# Altium footprint library Custom library.PcbLib: 80 footprints (part 4 of 5)
Each footprint in its own frame and in the unit in brackets; x right, y up, seen from the top. Pads: shape width x height; smd on the part's side, far side on the other; paste and mask are expansions set on the pad; w line width, h text height; cw(c..) or ccw(c..) is an arc to the next point about the centre after c.
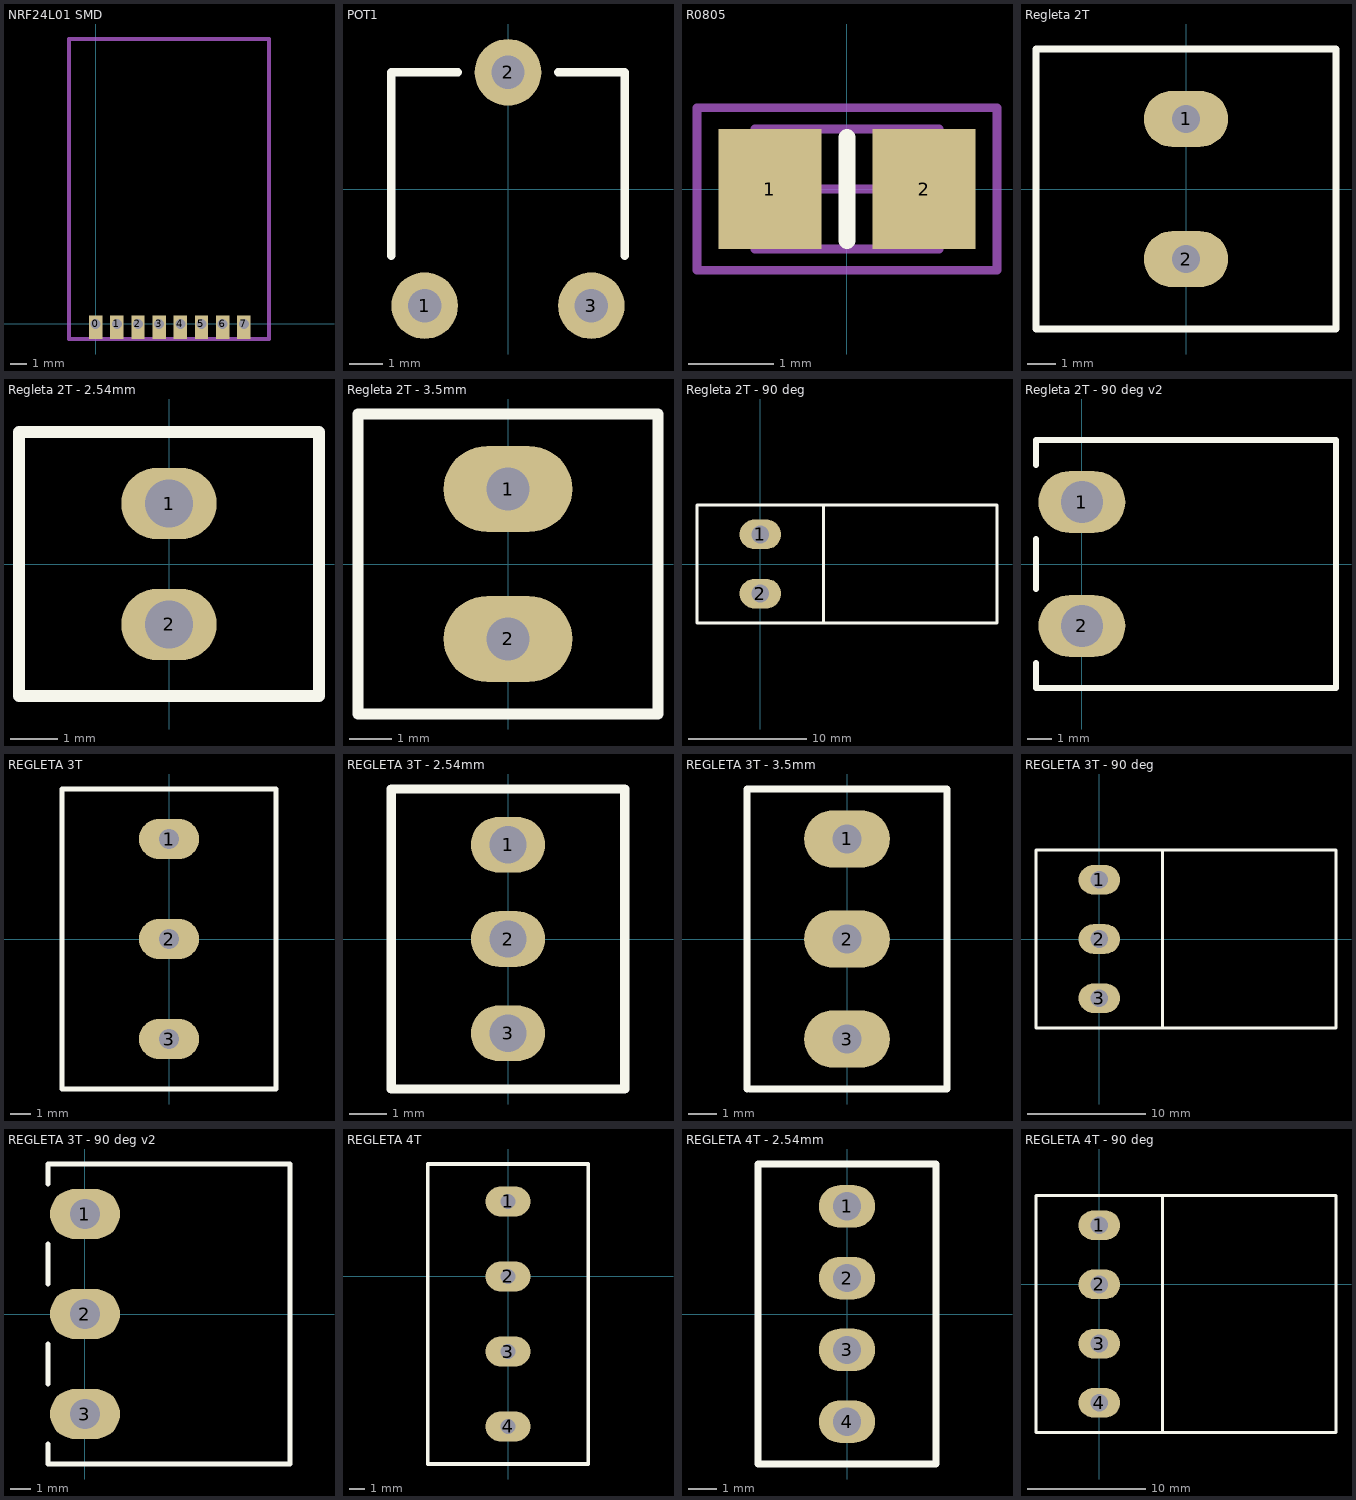
[diagram p3: the footprints below, top view; thin cyan lines are the x and y axes]

## NRF24L01 SMD [mm] "NRF24L01 Transciever SMD version"
pads (8):
  rect 0.8x1.4 hole 0.6 copper offset 0,-0.2: 0(0,0) 1(1.27,0) 2(2.54,0) 3(3.81,0) 4(5.08,0) 5(6.35,0) 6(7.62,0) 7(8.89,0)
Mechanical 1:
  lines w0.254: -1.6,-0.9 -1.6,17.1 10.4,17.1 10.4,-0.9 -1.6,-0.9
3D body: height 3.5, standoff 1.5, extent -1.6,-0.9 10.4,17.1

## POT1 [mm] "small pot"
pads (3):
  round 2 hole 1: 1(-2.5,-3.5) 2(0,3.5) 3(2.5,-3.5)
Top Overlay:
  lines w0.254: -3.5,-2 -3.5,3.5 -1.5,3.5 ; 1.5,3.5 3.5,3.5 3.5,-2

## R0805 [mm] "SMD0805 Resistor"
pads (2):
  rect 1.2x1.4 smd: 1(-0.9,0) 2(0.9,0)
Top Overlay:
  lines w0.2: 0,-0.6 0,0.6
Mechanical 13:
  lines w0.1: -1.075,-0.7 1.075,-0.7 1.075,0.7 -1.075,0.7 -1.075,-0.7
Mechanical 15:
  lines w0.1: -0.5,0 0.5,0 ; 0,-0.5 0,0.5 ; -1.75,-0.95 1.75,-0.95 1.75,0.95 -1.75,0.95 -1.75,-0.95
3D body: height 0.7, standoff 0, extent -1.075,-0.7 1.075,0.7

## Regleta 2T [mm] "Regleta standart de 2 pines"
pads (2):
  oval 3x2 hole 1: 1(0,2.5) 2(0,-2.5)
Top Overlay:
  lines w0.254: -5.35,-5 -5.35,5 5.35,5 5.35,-5 -5.35,-5
3D body: height 14.3, standoff 8, extent -3.175,-4.953 3.175,4.953
3D body: height 8, standoff 0, extent -5.334,-4.953 5.334,4.953

## Regleta 2T - 2.54mm [mm] "Regleta standart de 2 pines"
pads (2):
  oval 2x1.5 hole 1: 1(0,1.27) 2(0,-1.27)
Top Overlay:
  lines w0.254: -3.15,-2.77 -3.15,2.77 3.15,2.77 3.15,-2.77 -3.15,-2.77
3D body: height 14.3, standoff 8, extent -1.76,-2.77 1.89,2.77
3D body: height 8, standoff 0, extent -3.15,-2.77 3.15,2.77

## Regleta 2T - 3.5mm [mm] "Regleta standart de 2 pines"
pads (2):
  oval 3x2 hole 1: 1(0,1.75) 2(0,-1.75)
Top Overlay:
  lines w0.254: -3.5,-3.5 -3.5,3.5 3.5,3.5 3.5,-3.5 -3.5,-3.5
3D body: height 8.4, standoff 6, extent -3.5,-3.5 2,3.5
3D body: height 6, standoff 0, extent -3.5,-3.5 3.5,3.5

## Regleta 2T - 90 deg [mm] "Regleta standart de 2 pines 90 grados extraible"
pads (2):
  oval 3.5x2.5 hole 1.5: 1(0,2.5) 2(0,-2.5)
Top Overlay:
  lines w0.254: 19.939,5 5.35,5 ; 19.953,-5 5.35,-5 ; 20,-5 20,5 ; 5.35,-5 -5.35,-5 -5.35,5 5.35,5 ; 5.35,-5 5.35,5
3D body: height 14.3, standoff 8, extent -3.175,-4.953 3.175,4.953
3D body: height 8, standoff 0, extent -5.334,-4.953 5.334,4.953

## Regleta 2T - 90 deg v2 [mm] "Regleta alternativa de 2 pines 90 grados extraible"
pads (2):
  oval 3.5x2.5 hole 1.7: 1(0,2.5) 2(0,-2.5)
Top Overlay:
  lines w0.254: -1.85,-4 -1.85,-5 10.25,-5 10.25,5 -1.85,5 -1.85,4 ; -1.85,-1 -1.85,1
3D body: height 7.82, standoff 0.1, extent -1.85,-5 10.25,5

## REGLETA 3T [mm]
pads (3):
  oval 3x2 hole 1: 1(0,5) 2(0,0) 3(0,-5)
Top Overlay:
  lines w0.254: -5.35,-7.5 -5.35,7.5 5.35,7.5 5.35,-7.5 -5.35,-7.5
3D body: height 14.3, standoff 8, extent -3.175,-7.5 3.175,7.453
3D body: height 8, standoff 0, extent -5.35,-7.5 5.35,7.453

## REGLETA 3T - 2.54mm [mm]
pads (3):
  oval 2x1.5 hole 1: 1(0,2.54) 2(0,0) 3(0,-2.54)
Top Overlay:
  lines w0.254: -3.15,-4.04 3.15,-4.04 3.15,4.04 -3.15,4.04 -3.15,-4.04
3D body: height 8, standoff 0, extent -3.15,-4.04 3.15,4.04
3D body: height 14.3, standoff 8, extent -1.8,-4.04 1.67,4.04

## REGLETA 3T - 3.5mm [mm]
pads (3):
  oval 3x2 hole 1: 1(0,3.5) 2(0,0) 3(0,-3.5)
Top Overlay:
  lines w0.254: -3.5,-5.25 -3.5,5.25 3.5,5.25 3.5,-5.25 -3.4,-5.25
3D body: height 14.3, standoff 8, extent -3.5,-5.25 2,5.25
3D body: height 8, standoff 0, extent -3.5,-5.25 3.5,5.25

## REGLETA 3T - 90 deg [mm]
pads (3):
  oval 3.5x2.5 hole 1.5: 1(0,5) 2(0,0) 3(0,-5)
Top Overlay:
  lines w0.254: 19.939,7.5 5.35,7.5 ; 20,7.5 20,-7.5 5.35,-7.5 ; 5.35,-7.5 -5.35,-7.5 -5.35,7.5 5.35,7.5 ; 5.35,-7.5 5.35,7.5
3D body: height 14.3, standoff 8, extent -3.175,-7.5 3.175,7.453
3D body: height 8, standoff 0, extent -5.35,-7.5 5.35,7.453

## REGLETA 3T - 90 deg v2 [mm]
pads (3):
  oval 3.5x2.5 hole 1.5: 1(0,5) 2(0,0) 3(0,-5)
Top Overlay:
  lines w0.254: -1.85,-6.5 -1.85,-7.5 10.25,-7.5 10.25,7.5 -1.85,7.5 -1.85,6.5 ; -1.85,-3.5 -1.85,-1.5 ; -1.85,1.5 -1.85,3.5
3D body: height 7.82, standoff 0.1, extent -1.85,-7.5 10.25,7.5

## REGLETA 4T [mm]
pads (4):
  oval 3x2 hole 1: 1(0,5) 2(0,0) 3(0,-5)
  oval 3x2 hole 1 paste+0: 4(0,-10)
Top Overlay:
  lines w0.254: -5.35,-12.5 5.35,-12.5 5.35,7.5 -5.35,7.5 -5.35,-12.5
3D body: height 8, standoff 0, extent -5.35,-12.5 5.35,7.453
3D body: height 14.3, standoff 8, extent -3.175,-12.54 3.175,7.453

## REGLETA 4T - 2.54mm [mm]
pads (4):
  oval 2x1.5 hole 1: 1(0,3.81) 2(0,1.27) 3(0,-1.27)
  oval 2x1.5 hole 1 paste+0: 4(0,-3.81)
Top Overlay:
  lines w0.254: -3.15,-5.31 3.15,-5.31 3.15,5.31 -3.15,5.31 -3.15,-5.31
3D body: height 8, standoff 0, extent -3.15,-5.31 3.15,5.31
3D body: height 14.3, standoff 8, extent -1.89,-5.31 1.88,5.31

## REGLETA 4T - 90 deg [mm]
pads (4):
  oval 3.5x2.5 hole 1.5: 1(0,5) 2(0,0) 3(0,-5)
  oval 3.5x2.5 hole 1.5 paste+0: 4(0,-10)
Top Overlay:
  lines w0.254: 19.939,7.5 5.35,7.5 ; 20,7.5 20,-12.5 5.35,-12.5 ; 5.35,-12.5 5.35,7.5 ; 5.35,-12.5 -5.35,-12.5 -5.35,7.5 5.35,7.5
3D body: height 8, standoff 0, extent -5.35,-12.5 5.35,7.453
3D body: height 14.3, standoff 8, extent -3.175,-12.54 3.175,7.453